# EAGLE library part CCA_ (library csandell)
CHIP CAP ARRAY
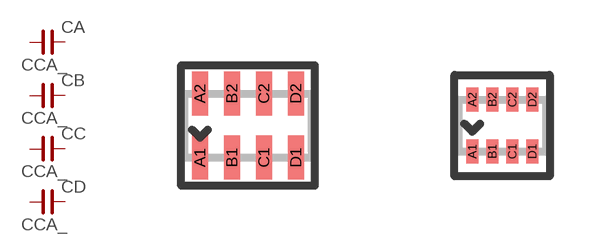
[diagram p3: symbol with the pads of CECJ-CTS-031817; footprints CECJ-CTS-031817, CECJ-0805]

Designator prefix C; gates A=CNP- B=CNP- C=CNP- D=CNP-

## CCA_  [CECJ-CTS-031817]
A1  A:1  pas
A2  A:2  pas
B1  B:1  pas
B2  B:2  pas
C1  C:1  pas
C2  C:2  pas
D1  D:1  pas
D2  D:2  pas

## CCA_ECJ-0805  [CECJ-0805]
Pads as for CECJ-CTS-031817

## CCA_ECJ-1206  [CECJ-1206]
Pads as for CECJ-CTS-031817

## Footprint CECJ-CTS-031817 (pad centres in mm)
Lengthen pads
smd 0.406 x 1.1: A1 -1.2,-0.8; A2 -1.2,0.8; B1 -0.4,-0.8; B2 -0.4,0.8; C1 0.4,-0.8; C2 0.4,0.8; D1 1.2,-0.8; D2 1.2,0.8

## Footprint CECJ-0805 (pad centres in mm)
CAPACITOR ARRAY - Panasonic 0.8 mm lead spacing, ECJ-0805 Series, grid 0.05 mm
smd 0.305 x 0.61: A1 -0.75,-0.65; A2 -0.75,0.65; B1 -0.25,-0.65; B2 -0.25,0.65; C1 0.25,-0.65; C2 0.25,0.65; D1 0.75,-0.65; D2 0.75,0.65

## Footprint CECJ-1206 (pad centres in mm)
CAPACITOR ARRAY - Panasonic 0.8 mm lead spacing, ECJ-1206 Series, grid 0.10 mm
smd 0.406 x 0.813: A1 -1.2,-0.9; A2 -1.2,0.9; B1 -0.4,-0.9; B2 -0.4,0.9; C1 0.4,-0.9; C2 0.4,0.9; D1 1.2,-0.9; D2 1.2,0.9